# Altium schematic symbol library MBP Universal Upgrade.SchLib: 4 symbols
Pins are listed as number, name and electrical type; pins without a type are passive.

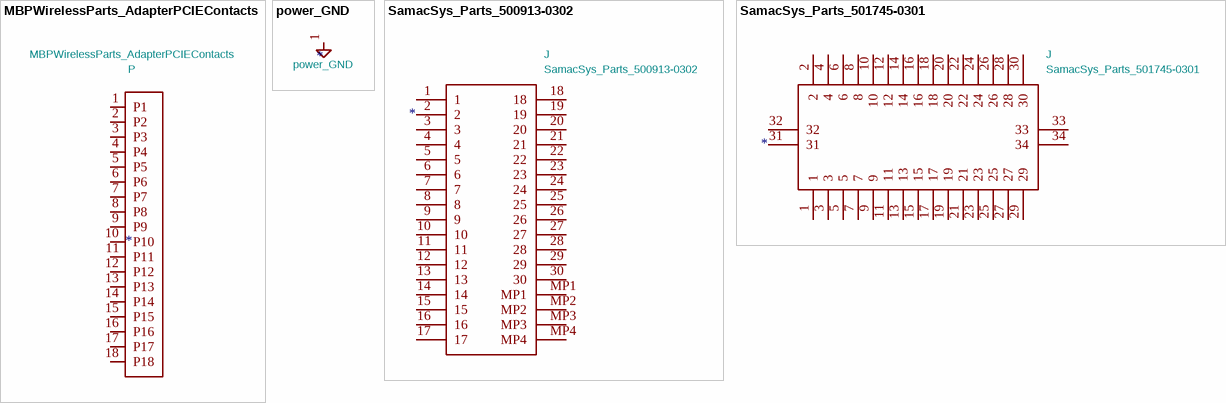
[diagram p0: symbols MBPWirelessParts_AdapterPCIEContacts to SamacSys_Parts_501745-0301]

## MBPWirelessParts_AdapterPCIEContacts
designator P  value MBPWirelessParts_AdapterPCIEContacts
pins: 1 P1, 2 P2, 3 P3, 4 P4, 5 P5, 6 P6, 7 P7, 8 P8, 9 P9, 10 P10, 11 P11, 12 P12, 13 P13, 14 P14, 15 P15, 16 P16, 17 P17, 18 P18

## power_GND
designator #PWR  value power_GND
pins: 1 GND

## SamacSys_Parts_500913-0302
designator J  value SamacSys_Parts_500913-0302
Molex SLIMSTACK Series 0.4mm 30 Way 2 Row Straight PCB Socket Surface Mount Board to Board; Manufacturer_Part_Number: 500913-0302; Footprint: 5009130302; Supplier: http://docs-emea.rs-online.com/webdocs/0f75/0900766b80f75290.pdf; Description_: Molex SLIMSTACK Series 0.4mm 30 Way 2 Row Straight PCB Socket Surface Mount Board to Board; Height: 2; Manufacturer_Name: Molex; Mouser Part Number: 538-500913-0302; Mouser Price/Stock: https://www.mouser.com/Search/Refine.aspx?Keyword=538-500913-0302
footprint 5009130302
pins: 1, 2, 3, 4, 5, 6, 7, 8, 9, 10, 11, 12, 13, 14, 15, 16, 17, 18, 19, 20, 21, 22, 23, 24, 25, 26, 27, 28, 29, 30, MP1, MP2, MP3, MP4

## SamacSys_Parts_501745-0301
designator J  value SamacSys_Parts_501745-0301
Board to Board & Mezzanine Connectors 0.4 BB PLUG ASSY H=2 EMBSTP PKG; Manufacturer_Name: Molex; Manufacturer_Part_Number: 501745-0301; Footprint: 5017450301; Supplier: https://componentsearchengine.com/Datasheets/1/501745-0301.pdf; Description_: Board to Board & Mezzanine Connectors 0.4 BB PLUG ASSY H=2 EMBSTP PKG; Height: 1.64; Mouser Part Number: 538-501745-0301; Mouser Price/Stock: https://www.mouser.com/Search/Refine.aspx?Keyword=538-501745-0301
footprint 5017450301
pins: 1, 2, 3, 4, 5, 6, 7, 8, 9, 10, 11, 12, 13, 14, 15, 16, 17, 18, 19, 20, 21, 22, 23, 24, 25, 26, 27, 28, 29, 30, 31, 32, 33, 34